# Altium integrated library Encoder PEC11R-4120K-S0018.IntLib: 1 symbol
Pins are listed as number, name and electrical type; pins without a type are passive.

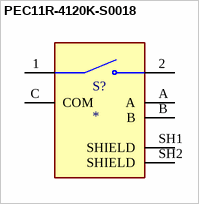
[diagram p0: symbol PEC11R-4120K-S0018]

## PEC11R-4120K-S0018
designator S?
PEC11R 12mm Incremental encoder 18 pulse | Bourns PEC11R-4120K-S0018; SnapEDA_Link: https://www.snapeda.com/parts/PEC11R-4120K-S0018/Bourns/view-part/?ref=snap; Package: None; Value: *; MF: Bourns; MP: PEC11R-4120K-S0018; Check_prices: https://www.snapeda.com/parts/PEC11R-4120K-S0018/Bourns/view-part/?ref=eda
footprint XDCR_PEC11R-4120K-S0018
pins: 1, 2, A, B, C COM, SH1 SHIELD, SH2 SHIELD